# Altium schematic symbol library ConnHDR.SchLib: 40 symbols
Pins are listed as number, name and electrical type; pins without a type are passive.

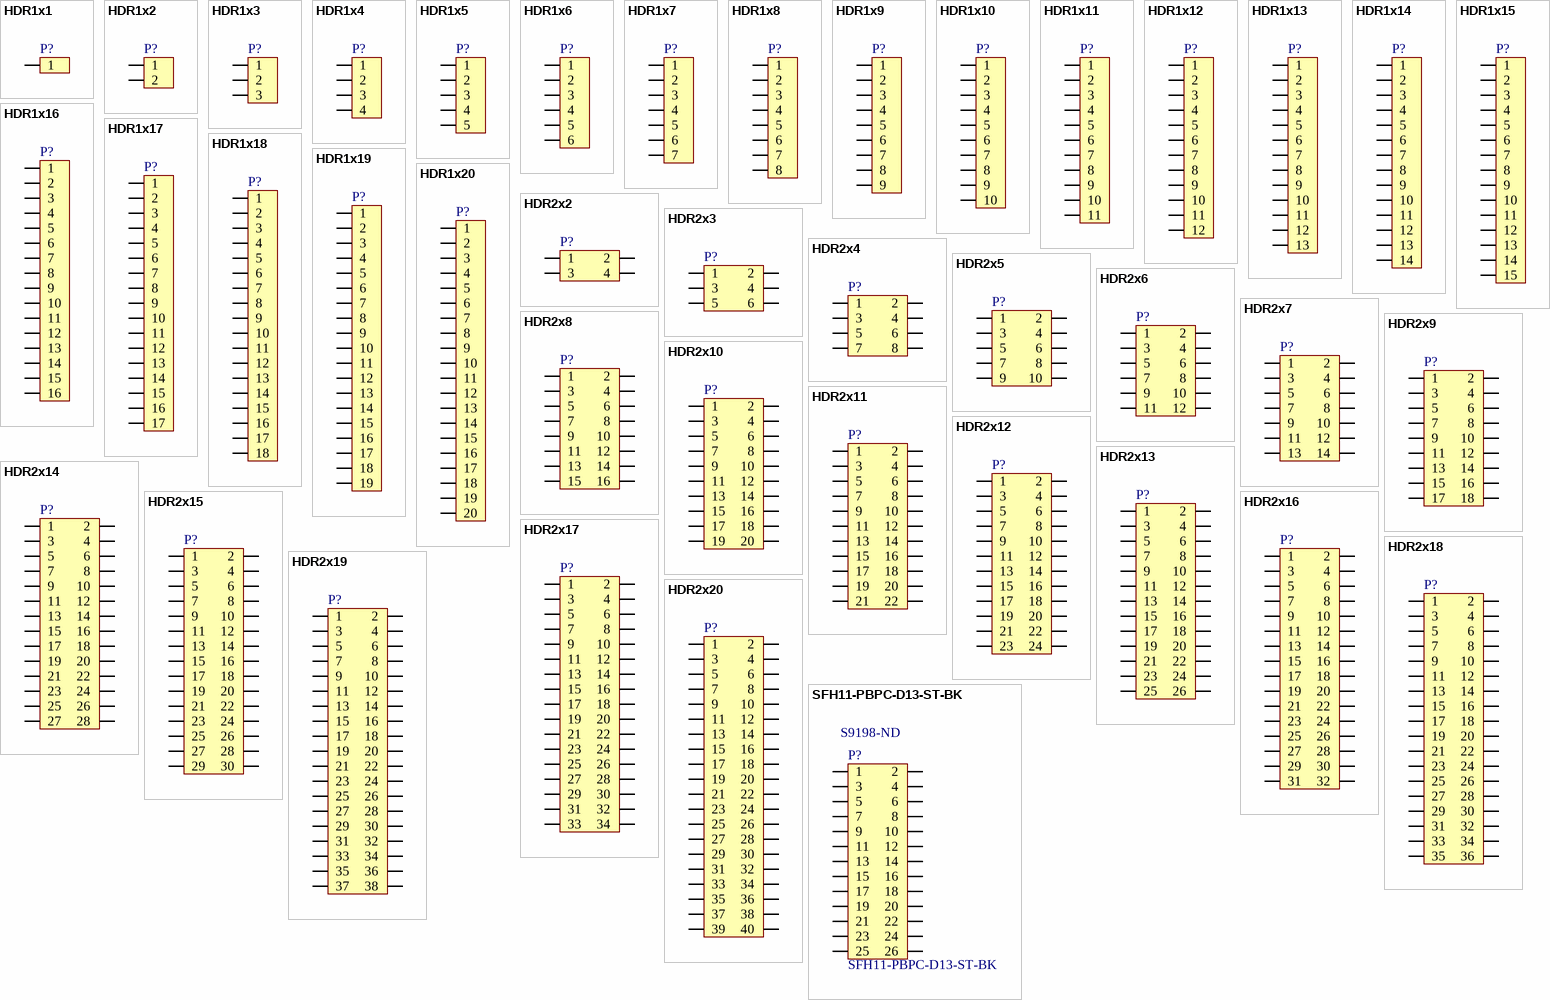
[diagram p0: symbols HDR1x1 to SFH11-PBPC-D13-ST-BK]

## HDR1x1
designator P?
Header; Populated: Yes; LifeCycle: Checked; ROHS: Yes
footprint HDR1X1_1.27_180
footprint 1x1x2.54 Pin Header TH V
pins: 1

## HDR1x2
designator P?
Header; Populated: Yes; LifeCycle: Checked; ROHS: Yes
footprint HDR1X2_2.54_90
footprint HDR1X2_2.54_90F
footprint HDR1X2_2.54_180
footprint HDR1X2_2.54_180F
footprint HDR1X2_2.54_180H
footprint HDR1X2_1.27_180
footprint HDR1X2_1.27_180H
footprint HDR1X2_2.54_90 - SMD
footprint 1x2x2.54 Pin Header TH V
pins: 1, 2

## HDR1x3
designator P?
Header; Populated: Yes; LifeCycle: Checked; ROHS: Yes
footprint HDR1X3_2.54_90
footprint HDR1X3_2.54_90F
footprint HDR1X3_2.54_180
footprint HDR1X3_2.54_180F
footprint HDR1X3_1.27_180HF
footprint HDR1X3_2.54_90 - SMD
footprint 1x3x2.54 Pin Header TH V
pins: 1, 2, 3

## HDR1x4
designator P?
Header; Populated: Yes; LifeCycle: Checked; ROHS: Yes
footprint HDR1X4_2.54_90
footprint HDR1X4_2.54_90F
footprint HDR1x4_2.54_180
footprint HDR1X4_2.54_180F
footprint HDR1X4_2.54_180H
footprint HDR1X4_1.27_180
footprint HDR1X4_1.27_180F
footprint HDR1X4_1.27_180H
footprint HDR1X4_1.27_180HF
footprint HDR1X4_2.54_180HF
footprint HDR1X4_2.54_90 - SMD
footprint 1x4x2.54 Pin Header TH V
pins: 1, 2, 3, 4

## HDR1x5
designator P?
Header; Populated: Yes; LifeCycle: Checked; ROHS: Yes
footprint HDR1X5_2.54_90 (Footprint not found)
footprint HDR1X5_2.54_90F (Footprint not found)
footprint HDR1X5_2.54_180
footprint HDR1X5_2.54_180F (Footprint not found)
footprint 1x5x2.54 Pin Header TH V
footprint HDR1X5_1.27_PTH-180H
pins: 1, 2, 3, 4, 5

## HDR1x6
designator P?
Header; Populated: Yes; LifeCycle: Checked; ROHS: Yes
footprint HDR1X6_2.54_90
footprint HDR1X6_2.54_90F
footprint HDR1X6_2.54_180
footprint HDR1X6_2.54_180F
footprint HDR1X6_1.27_180H
footprint HDR1X6_1.27_180HF
footprint HDR1X6_1.27_180HFD
footprint 1x6x2.54 Pin Header TH V
footprint HDR1X6_1.27_PTH-180H
pins: 1, 2, 3, 4, 5, 6

## HDR1x7
designator P?
Header; Populated: Yes; LifeCycle: Checked; ROHS: Yes
footprint HDR1X7_2.54_90 (Footprint not found)
footprint HDR1X7_2.54_90F (Footprint not found)
footprint HDR1X7_2.54_180
footprint HDR1X7_2.54_180F (Footprint not found)
footprint 1x7x2.54 Pin Header TH V
pins: 1, 2, 3, 4, 5, 6, 7

## HDR1x8
designator P?
Header; Populated: Yes; LifeCycle: Checked; ROHS: Yes
footprint HDR1X8_2.54_90 (Footprint not found)
footprint HDR1X8_2.54_90F (Footprint not found)
footprint HDR1X8_2.54_180
footprint HDR1X8_2.54_180F
footprint HDR1X8_1.27_180
footprint HDR1X8_1.27_180F
footprint 1x8x2.54 Pin Header TH V
footprint HDR1X8_2.54 180 SH
pins: 1, 2, 3, 4, 5, 6, 7, 8

## HDR1x9
designator P?
Header; Populated: Yes; LifeCycle: Checked; ROHS: Yes
footprint HDR1X9_2.54_90 (Footprint not found)
footprint HDR1X9_2.54_90F (Footprint not found)
footprint HDR1X9_2.54_180
footprint HDR1X9_2.54_180F (Footprint not found)
footprint 1x9x2.54 Pin Header TH V
pins: 1, 2, 3, 4, 5, 6, 7, 8, 9

## HDR1x10
designator P?
Header; Populated: Yes; LifeCycle: Checked; ROHS: Yes
footprint HDR1X10_2.54_90
footprint HDR1X10_2.54_90F (Footprint not found)
footprint HDR1X10_2.54_180
footprint HDR1X10_2.54_180F
footprint HDR1X10_2.54_180H
footprint 1x10x2.54 Pin Header TH V
pins: 1, 2, 3, 4, 5, 6, 7, 8, 9, 10

## HDR1x11
designator P?
Header; Populated: Yes; LifeCycle: Checked; ROHS: Yes
footprint HDR1X11_2.54_90 (Footprint not found)
footprint HDR1X11_2.54_90F (Footprint not found)
footprint HDR1X11_2.54_180
footprint HDR1X11_2.54_180F (Footprint not found)
footprint 1x11x2.54 Pin Header TH V
pins: 1, 2, 3, 4, 5, 6, 7, 8, 9, 10, 11

## HDR1x12
designator P?
Header; Populated: Yes; LifeCycle: Checked; ROHS: Yes
footprint HDR1X12_2.54_90
footprint HDR1X12_2.54_90F (Footprint not found)
footprint HDR1X12_2.54_180
footprint HDR1X12_2.54_180H
footprint HDR1X12_2.54_180F
footprint 1x12x2.54 Pin Header TH V
pins: 1, 2, 3, 4, 5, 6, 7, 8, 9, 10, 11, 12

## HDR1x13
designator P?
Header; Populated: Yes; LifeCycle: Checked; ROHS: Yes
footprint HDR1X13_2.54_90 (Footprint not found)
footprint HDR1X13_2.54_90F (Footprint not found)
footprint HDR1X13_2.54_180
footprint HDR1X13_2.54_180F
pins: 1, 2, 3, 4, 5, 6, 7, 8, 9, 10, 11, 12, 13

## HDR1x14
designator P?
Header; Populated: Yes; LifeCycle: Checked; ROHS: Yes
footprint HDR1X14_2.54_90 (Footprint not found)
footprint HDR1X14_2.54_90F (Footprint not found)
footprint HDR1X14_2.54_180
footprint HDR1X14_2.54_180F (Footprint not found)
pins: 1, 2, 3, 4, 5, 6, 7, 8, 9, 10, 11, 12, 13, 14

## HDR1x15
designator P?
Header; Populated: Yes; LifeCycle: Checked; ROHS: Yes
footprint HDR1X15_2.54_90 (Footprint not found)
footprint HDR1X15_2.54_90F (Footprint not found)
footprint HDR1X15_2.54_180
footprint HDR1X15_2.54_180F (Footprint not found)
pins: 1, 2, 3, 4, 5, 6, 7, 8, 9, 10, 11, 12, 13, 14, 15

## HDR1x16
designator P?
Header; Populated: Yes; LifeCycle: Checked; ROHS: Yes
footprint HDR1X16_2.54_90 (Footprint not found)
footprint HDR1X16_2.54_90F (Footprint not found)
footprint HDR1X16_2.54_180
footprint HDR1X16_2.54_180F (Footprint not found)
footprint 1x16x2.54 Pin Header TH V
footprint HDR1X16 SMD
pins: 1, 2, 3, 4, 5, 6, 7, 8, 9, 10, 11, 12, 13, 14, 15, 16

## HDR1x17
designator P?
Header; Populated: Yes; LifeCycle: Checked; ROHS: Yes
footprint HDR1X17_2.54_90 (Footprint not found)
footprint HDR1X17_2.54_90F (Footprint not found)
footprint HDR1X17_2.54_180
footprint HDR1X17_2.54_180F (Footprint not found)
footprint HDR1X17_1.27_180
pins: 1, 2, 3, 4, 5, 6, 7, 8, 9, 10, 11, 12, 13, 14, 15, 16, 17

## HDR1x18
designator P?
Header; Populated: Yes; LifeCycle: Checked; ROHS: Yes
footprint HDR1X18_2.54_180
footprint HDR1X18_2.54_180F
footprint HDR1X18_2.54_90
footprint HDR1X18_2.54_90F
pins: 1, 2, 3, 4, 5, 6, 7, 8, 9, 10, 11, 12, 13, 14, 15, 16, 17, 18

## HDR1x19
designator P?
Header; Populated: Yes; LifeCycle: Checked; ROHS: Yes
footprint HDR1X19_2.54_180
footprint HDR1X19_2.54_180F
footprint HDR1X19_2.54_90
footprint HDR1X19_2.54_90F
pins: 1, 2, 3, 4, 5, 6, 7, 8, 9, 10, 11, 12, 13, 14, 15, 16, 17, 18, 19

## HDR1x20
designator P?
Header; Populated: Yes; LifeCycle: Checked; ROHS: Yes
footprint HDR1X20_2.54_90 (Footprint not found)
footprint HDR1X20_2.54_90F (Footprint not found)
footprint HDR1X20_2.54_180
footprint HDR1X20_2.54_180F (Footprint not found)
footprint HDR1X20_2.54_180H
pins: 1, 2, 3, 4, 5, 6, 7, 8, 9, 10, 11, 12, 13, 14, 15, 16, 17, 18, 19, 20

## HDR2x2
designator P?
Header; Populated: Yes; LifeCycle: Checked; ROHS: Yes
footprint HDR2X2_2.54_180
footprint HDR2X2_2.54_180F
footprint HDR2X2_2.54_180H
footprint HDR2X2_2.54_90
footprint HDR2X20_2.54_90F
pins: 1, 2, 3, 4

## HDR2x3
designator P?
Header; Populated: Yes; LifeCycle: Checked; ROHS: Yes
footprint HDR2X3_2.54_90
footprint HDR2X3_2.54_90F
footprint HDR2X3_2.54_180
footprint HDR2X3_2.54_180F
footprint HDR2X3_2.54_180H
pins: 1, 2, 3, 4, 5, 6

## HDR2x4
designator P?
Header; Populated: Yes; LifeCycle: Checked; ROHS: Yes
footprint HDR2X4_2.54_90
footprint HDR2X4_2.54_90F
footprint HDR2X4_2.54_180
footprint HDR2X4_2.54_180F
footprint HDR2X4_2.54_180_B
pins: 1, 2, 3, 4, 5, 6, 7, 8

## HDR2x5
designator P?
Header; Populated: Yes; LifeCycle: Checked; ROHS: Yes
footprint HDR2X5_2.54_90 (Footprint not found)
footprint HDR2X5_2.54_90F (Footprint not found)
footprint HDR2X5_2.54_180
footprint HDR2X5_2.54_180F
footprint 2x5x2.54 Pin Header TH V
footprint ML10L
pins: 1, 2, 3, 4, 5, 6, 7, 8, 9, 10

## HDR2x6
designator P?
Header; Populated: Yes; LifeCycle: Checked; ROHS: Yes
footprint HDR2X6_2.54_180
footprint HDR2X6_2.54_180F
footprint HDR2X6_2.54_90
footprint HDR2X6_2.54_90F
pins: 1, 2, 3, 4, 5, 6, 7, 8, 9, 10, 11, 12

## HDR2x7
designator P?
Header; Populated: Yes; LifeCycle: Checked; ROHS: Yes
footprint HDR2X7_2.54_180
footprint HDR2X7_2.54_180F
footprint HDR2X7_2.54_90
footprint HDR2X7_2.54_90F
footprint HDR2X7_2.54_180 - Shrouded
footprint HDR2X7_2.54_90 - SH
pins: 1, 2, 3, 4, 5, 6, 7, 8, 9, 10, 11, 12, 13, 14

## HDR2x8
designator P?
Header; Populated: Yes; LifeCycle: Checked; ROHS: Yes
footprint HDR2X8_2.54_90
footprint HDR2X8_2.54_90F
footprint HDR2X8_2.54_180
footprint HDR2X8_2.54_180F
footprint HDR2X8_2.54_180HF
footprint HDR2X8_2.54_180H
pins: 1, 2, 3, 4, 5, 6, 7, 8, 9, 10, 11, 12, 13, 14, 15, 16

## HDR2x9
designator P?
Header; Populated: Yes; LifeCycle: Checked; ROHS: Yes
footprint HDR2X9_2.54_180
footprint HDR2X9_2.54_180F
footprint HDR2X9_2.54_90
footprint HDR2X9_2.54_90F
pins: 1, 2, 3, 4, 5, 6, 7, 8, 9, 10, 11, 12, 13, 14, 15, 16, 17, 18

## HDR2x10
designator P?
Header; Populated: Yes; LifeCycle: Checked; ROHS: Yes
footprint HDR2X10_2.54_90
footprint HDR2X10_2.54_90F
footprint HDR2X10_2.54_180
footprint HDR2X10_2.54_180F
footprint HDR2X10_2.54_180HF
footprint HDR2X10_2.54_180H
footprint 2x10x2.54 Pin Header TH V
footprint HDR2X10_2.54_180 - SH
footprint HDR2X10_2.54_180 - SH - SMD
footprint TE_5103308-5
footprint 3020-20-0200-00
pins: 1, 2, 3, 4, 5, 6, 7, 8, 9, 10, 11, 12, 13, 14, 15, 16, 17, 18, 19, 20

## HDR2x11
designator P?
Header; Populated: Yes; LifeCycle: Checked; ROHS: Yes
footprint HDR2X11_2.54_180
footprint HDR2X11_2.54_180F
footprint HDR2X11_2.54_90
footprint HDR2X11_2.54_90F
pins: 1, 2, 3, 4, 5, 6, 7, 8, 9, 10, 11, 12, 13, 14, 15, 16, 17, 18, 19, 20, 21, 22

## HDR2x12
designator P?
Header; Populated: Yes; LifeCycle: Checked; ROHS: Yes
footprint HDR2X12_2.54_90 (Footprint not found)
footprint HDR2X12_2.54_90F (Footprint not found)
footprint HDR2X12_2.54_180 (Footprint not found)
footprint HDR2X12_2.54_180F
footprint HDR2X12_2.54_180HF
pins: 1, 2, 3, 4, 5, 6, 7, 8, 9, 10, 11, 12, 13, 14, 15, 16, 17, 18, 19, 20, 21, 22, 23, 24

## HDR2x13
designator P?
Header; Populated: Yes; LifeCycle: Checked; ROHS: Yes
footprint HDR2X13_2.54_90 (Footprint not found)
footprint HDR2X13_2.54_90F (Footprint not found)
footprint HDR2X13_2.54_180 (Footprint not found)
footprint HDR2X13_2.54_180F (Footprint not found)
footprint HDR2X13_2.54_180H
pins: 1, 2, 3, 4, 5, 6, 7, 8, 9, 10, 11, 12, 13, 14, 15, 16, 17, 18, 19, 20, 21, 22, 23, 24, 25, 26

## HDR2x14
designator P?
Header; Populated: Yes; LifeCycle: Checked; ROHS: Yes
footprint HDR2X14_2.54_180
footprint HDR2X14_2.54_180F
footprint HDR2X14_2.54_90
footprint HDR2X14_2.54_90F
pins: 1, 2, 3, 4, 5, 6, 7, 8, 9, 10, 11, 12, 13, 14, 15, 16, 17, 18, 19, 20, 21, 22, 23, 24, 25, 26, 27, 28

## HDR2x15
designator P?
Header; Populated: Yes; LifeCycle: Checked; ROHS: Yes
footprint HDR2X15_2.54_180
footprint HDR2X15_2.54_180F
footprint HDR2X15_2.54_90
footprint HDR2X15_2.54_90F
pins: 1, 2, 3, 4, 5, 6, 7, 8, 9, 10, 11, 12, 13, 14, 15, 16, 17, 18, 19, 20, 21, 22, 23, 24, 25, 26, 27, 28, 29, 30

## HDR2x16
designator P?
Header; Populated: Yes; LifeCycle: Checked; ROHS: Yes
footprint HDR2X16_2.54_90
footprint HDR2X16_2.54_90F
footprint HDR2X16_2.54_180
footprint HDR2X16_2.54_180F
pins: 1, 2, 3, 4, 5, 6, 7, 8, 9, 10, 11, 12, 13, 14, 15, 16, 17, 18, 19, 20, 21, 22, 23, 24, 25, 26, 27, 28, 29, 30, 31, 32

## HDR2x17
designator P?
Header; Populated: Yes; LifeCycle: Checked; ROHS: Yes
footprint HDR2X17_2.54_180
footprint HDR2X17_2.54_180F
footprint HDR2X17_2.54_90
footprint HDR2X17_2.54_90F
pins: 1, 2, 3, 4, 5, 6, 7, 8, 9, 10, 11, 12, 13, 14, 15, 16, 17, 18, 19, 20, 21, 22, 23, 24, 25, 26, 27, 28, 29, 30, 31, 32, 33, 34

## HDR2x18
designator P?
Header; Populated: Yes; LifeCycle: Checked; ROHS: Yes
footprint HDR2X18_2.54_180
footprint HDR2X18_2.54_180F
footprint HDR2X18_2.54_90
footprint HDR2X18_2.54_90F
pins: 1, 2, 3, 4, 5, 6, 7, 8, 9, 10, 11, 12, 13, 14, 15, 16, 17, 18, 19, 20, 21, 22, 23, 24, 25, 26, 27, 28, 29, 30, 31, 32, 33, 34, 35, 36

## HDR2x19
designator P?
Header; Populated: Yes; LifeCycle: Checked; ROHS: Yes
footprint HDR2X19_2.54_180
footprint HDR2X19_2.54_180F
footprint HDR2X19_2.54_90
footprint HDR2X19_2.54_90F
pins: 1, 2, 3, 4, 5, 6, 7, 8, 9, 10, 11, 12, 13, 14, 15, 16, 17, 18, 19, 20, 21, 22, 23, 24, 25, 26, 27, 28, 29, 30, 31, 32, 33, 34, 35, 36, 37, 38

## HDR2x20
designator P?
Header; Populated: Yes; LifeCycle: Checked; ROHS: Yes
footprint HDR2X20_2.54_90
footprint HDR2X20_2.54_90F
footprint HDR2X20_2.54_180
footprint HDR2X20_2.54_180F
footprint HDR2X20_2.54_180 - Shrouded
pins: 1, 2, 3, 4, 5, 6, 7, 8, 9, 10, 11, 12, 13, 14, 15, 16, 17, 18, 19, 20, 21, 22, 23, 24, 25, 26, 27, 28, 29, 30, 31, 32, 33, 34, 35, 36, 37, 38, 39, 40

## SFH11-PBPC-D13-ST-BK
designator P?  Supplier Part Number 1: S9198-ND
CONN HEADR FMALE 26POS .1" DL AU; Manufacturer: Sullins; Number of Positions: 26; Connector Type: Socket,Header; Pitch: 0.1inch; Supplier 1: Digi-Key; Manufacturer Part Number: SFH11-PBPC-D13-ST-BK; Stock 1: 7199; Pricing 1: 1=1.39, 10=1.261, 100=1.0811, 500=0.9009, 1000=0.7722, 5000=0.7436 (USD); Mount: Through Hole; Colour: Black; Contact Plating: Gold; Package Quantity: 1; Number of Rows: 2; Packaging: Tray; Termination: Solder; Row Spacing: 0.1inch; Lead Free: Lead Free; ComponentLink1URL: https://datasheet.ciiva.com/754/sfh11-pxxc-dxx-st-xx11160-c-754559.pdf; ComponentLink1Description: https://datasheet.ciiva.com/754/sfh11-pxxc-dxx-st-xx11160-c-754559.pdf; Value: SFH11-PBPC-D13-ST-BK
footprint SFH11-PBPC-D13-ST-BK
pins: 1, 2, 3, 4, 5, 6, 7, 8, 9, 10, 11, 12, 13, 14, 15, 16, 17, 18, 19, 20, 21, 22, 23, 24, 25, 26